# Altium footprint library lan_PCB.PcbLib: 28 footprints (part 1 of 2)
Each footprint in its own frame and in the unit in brackets; x right, y up, seen from the top. Pads: shape width x height; smd on the part's side, far side on the other; paste and mask are expansions set on the pad; w line width, h text height; cw(c..) or ccw(c..) is an arc to the next point about the centre after c.
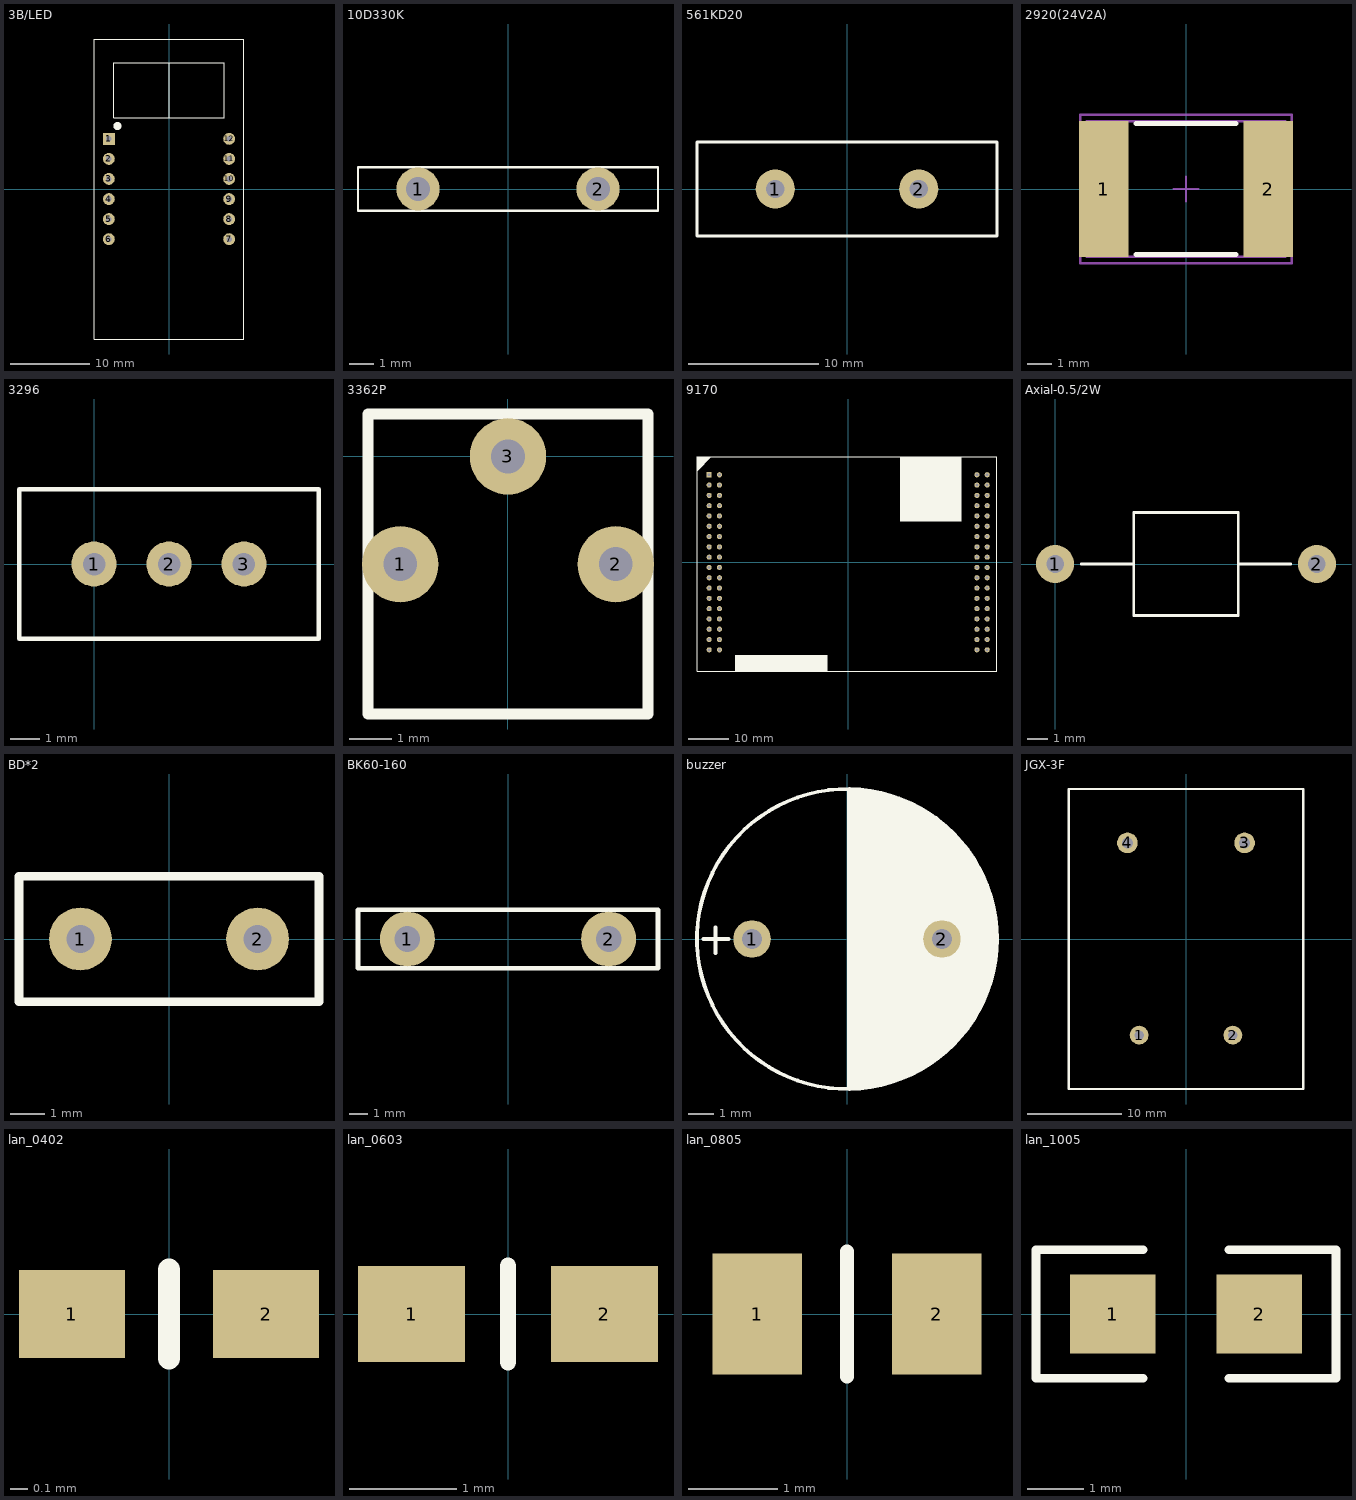
[diagram p0: the footprints below, top view; thin cyan lines are the x and y axes]

## 3B/LED [mm]
pads (12):
  rect 1.5x1.5 hole 0.711: 1(-7.62,6.35)
  round 1.5 hole 0.711: 2(-7.62,3.81) 3(-7.62,1.27) 4(-7.62,-1.27) 5(-7.62,-3.81) 6(-7.62,-6.35) 7(7.62,-6.35) 8(7.62,-3.81) 9(7.62,-1.27) 10(7.62,1.27) 11(7.62,3.81) 12(7.62,6.35)
Top Overlay:
  circle w0.5: c-6.528,7.976 r0.254
  lines w0.127: 0,9 0,16 ; -9.5,-19 -9.5,19 9.5,19 9.5,-19 -9.5,-19 ; -7,9 -7,16 7,16 7,9 -7,9

## 10D330K [mm] "压敏电阻"
height 16.5
pads (2):
  round 1.8 hole 1: 1(-3.75,0) 2(3.75,0)
Top Overlay:
  lines w0.102: -6.25,-0.9 -6.25,0.9 6.25,0.9 6.25,-0.9 -6.25,-0.9

## 561KD20 [mm]
height 23
pads (2):
  round 3 hole 1.4: 1(-5.5,0) 2(5.5,0)
Top Overlay:
  lines w0.254: -11.5,-3.6 11.5,-3.6 11.5,3.6 -11.5,3.6 -11.5,-3.6

## 2920(24V2A) [mm] "MF-LSMF260X Fuse"
height 1.6
pads (2):
  rect 2x5.45 smd: 1(-3.3,0) 2(3.3,0)
Top Overlay:
  lines w0.2: -2,-2.625 2,-2.625 ; -2,2.625 2,2.625
Mechanical 13:
  lines w0.1: -3.99,-2.72 3.99,-2.72 3.99,2.72 -3.99,2.72 -3.99,-2.72
Mechanical 15:
  lines w0.1: -0.5,0 0.5,0 ; 0,-0.5 0,0.5 ; -4.25,-2.975 4.25,-2.975 4.25,2.975 -4.25,2.975 -4.25,-2.975
3D body: height 1.6, standoff 0, extent -3.99,-2.72 3.99,2.72

## 3296 [mil] "3296系列电位器"
pads (3):
  round 60 hole 30: 1(0,0) 2(100,0) 3(200,0)
Top Overlay:
  lines w6: -100,-100 300,-100 300,100 -100,100 -100,-100

## 3362P [mm] "For 3362P"
height 4.7
pads (3):
  round 1.8 hole 0.8 mask+0.127: 1(-2.54,-2.54) 2(2.54,-2.54) 3(0,0)
Top Overlay:
  lines w0.254: -3.3,-6.071 3.3,-6.071 3.3,1 -3.3,1 -3.3,-6.071

## 9170 [mil]
height 255.91
pads (72):
  rect 50x50 hole 27.99: 1(-1350,850)
  round 50 hole 28: 2(-1250,850) 3(-1350,750) 4(-1250,750) 5(-1350,650) 6(-1250,650) 7(-1350,550) 8(-1250,550) 9(-1350,450) 10(-1250,450) 11(-1350,350) 12(-1250,350) 13(-1350,250) 14(-1250,250) 15(-1350,150) 16(-1250,150) 17(-1350,50) 18(-1250,50) 19(-1350,-50) 20(-1250,-50) 21(-1350,-150) 22(-1250,-150) 23(-1350,-250) 24(-1250,-250) 25(-1350,-350) 26(-1250,-350) 27(-1350,-450) 28(-1250,-450) 29(-1350,-550) 30(-1250,-550) 31(-1350,-650) 32(-1250,-650) 33(-1350,-750) 34(-1250,-750) 35(-1350,-850) 36(-1250,-850) 37(1350,-850) 38(1250,-850) 39(1350,-750) 40(1250,-750) 41(1350,-650) 42(1250,-650) 43(1350,-550) 44(1250,-550) 45(1350,-450) 46(1250,-450) 47(1350,-350) 48(1250,-350) 49(1350,-250) 50(1250,-250) 51(1350,-150) 52(1250,-150) 53(1350,-50) 54(1250,-50) 55(1350,50) 56(1250,50) 57(1350,150) 58(1250,150) 59(1350,250) 60(1250,250) 61(1350,350) 62(1250,350) 63(1350,450) 64(1250,450) 65(1350,550) 66(1250,550) 67(1350,650) 68(1250,650) 69(1350,750) 70(1250,750) 71(1350,850) 72(1250,850)
Top Overlay:
  rectangle: -1100,-1060 -200,-898
  rectangle: 502,397 1102,1027
  region: -1468.11,1027.17 -1468.11,884.17 -1328.42,1023.86 -1328.42,1027.17
  lines w10: -1468.11,-1059.45 -1468.11,1027.17 1445.28,1027.17 1445.28,-1059.45 -1468.11,-1059.45
3D body: height 334.65, standoff 0, extent -1400,-900 -1200,900
3D body: height 334.65, standoff 0, extent 1200,-900 1400,900
3D body: height 452.76, standoff 393.7, extent -1100,-1057 -198,-899
3D body: height 393.7, standoff 334.65, extent -1467,-1058 1445,1025
3D body: height 452.76, standoff 393.7, extent 502,397 1102,1023

## Axial-0.5/2W [mm]
pads (2):
  round 1.85 hole 0.85: 1(0,0) 2(12.7,0)
Top Overlay:
  lines w0.127: 1.27,0 3.81,0 ; 8.89,0 11.43,0 ; 3.81,0 3.81,2.5 8.89,2.5 8.89,-2.5 3.81,-2.5 3.81,0

## BD*2 [mm] "For two ferrite bead"
height 6
pads (2):
  round 1.8 hole 0.8 mask+0.127: 1(-2.54,0) 2(2.54,0)
Top Overlay:
  lines w0.254: -4.3,-1.8 4.3,-1.8 4.3,1.8 -4.3,1.8 -4.3,-1.8

## BK60-160 [mm]
height 21
pads (2):
  round 3 hole 1.4: 1(-5.5,0) 2(5.5,0)
Top Overlay:
  lines w0.254: -8.2,-1.6 -8.2,1.6 8.2,1.6 8.2,-1.6 -8.2,-1.6

## buzzer [mm] "DIP BUZZER"
pads (2):
  round 1.5 hole 0.8: 1(-3.8,0) 2(3.8,0)
Top Overlay:
  circle w0.152: c0,0 r6
  region: 0,5.969 0,-5.994 0.025,-5.969 0.66,-5.969 0.686,-5.944 0.94,-5.944 0.991,-5.893 1.194,-5.893 1.27,-5.817 1.524,-5.817 1.651,-5.69 1.829,-5.69 1.854,-5.664 1.981,-5.664 2.083,-5.563 2.261,-5.563 2.362,-5.461 2.54,-5.461 2.692,-5.309 2.845,-5.309 3.073,-5.08 3.302,-5.08 3.658,-4.724 3.759,-4.724 4.648,-3.835 4.648,-3.81 4.928,-3.531 4.928,-3.302 5.309,-2.921 5.309,-2.692 5.537,-2.464 5.537,-2.184 5.563,-2.184 5.588,-2.21
  region: 0,5.969 0,3.302 5.563,-2.261 5.664,-2.159 5.664,-1.803 5.817,-1.651 5.817,-1.143 5.994,-0.965 5.994,0.965 5.817,1.143 5.817,1.651 5.664,1.803 5.664,2.184 5.41,2.438 5.41,2.718 5.08,3.048 5.08,3.327 4.166,4.242 4.166,4.343 4.14,4.343 3.581,4.902 3.327,4.902 3.023,5.207 2.87,5.207 2.616,5.461 2.337,5.461 2.108,5.69 1.702,5.69 1.549,5.842 1.016,5.842 0.889,5.969
  lines w0.152: -5.74,0 -4.74,0 ; -5.258,-0.559 -5.258,0.457

## JGX-3F [mm] "固态继电器"
height 14
pads (4):
  round 2 hole 1: 1(-5,-10.25) 2(5,-10.25)
  round 2.2 hole 1.2: 3(6.25,10.25) 4(-6.25,10.25)
Top Overlay:
  lines w0.254: -12.5,-16 -12.5,16 12.5,16 12.5,-16 -12.5,-16

## lan_0402 [mm]
pads (2):
  rect 0.6x0.5 smd: 1(-0.55,0) 2(0.55,0)
Top Overlay:
  lines w0.127: 0,-0.25 0,0.25

## lan_0603 [mm]
height 1
pads (2):
  rect 1x0.9 smd: 1(-0.9,0) 2(0.9,0)
Top Overlay:
  lines w0.152: 0,-0.45 0,0.45
3D body: height 1, standoff 0, extent -0.813,-0.432 0.813,0.432

## lan_0805 [mm]
pads (2):
  rect 1x1.35 smd: 1(-1,0) 2(1,0)
Top Overlay:
  lines w0.152: 0,-0.7 0,0.7
3D body: height 1, standoff 0, extent -0.991,-0.66 0.991,0.66

## lan_1005 [mm]
pads (2):
  rect 1.524x1.4 smd: 1(-1.3,0) 2(1.3,0)
Top Overlay:
  lines w0.152: -0.762,-1.143 -2.667,-1.143 -2.667,1.143 -0.762,1.143 ; 0.762,-1.143 2.667,-1.143 2.667,1.143 0.762,1.143